# Altium integrated library con-harting-h.IntLib: 18 symbols
Pins are listed as number, name and electrical type; pins without a type are passive.

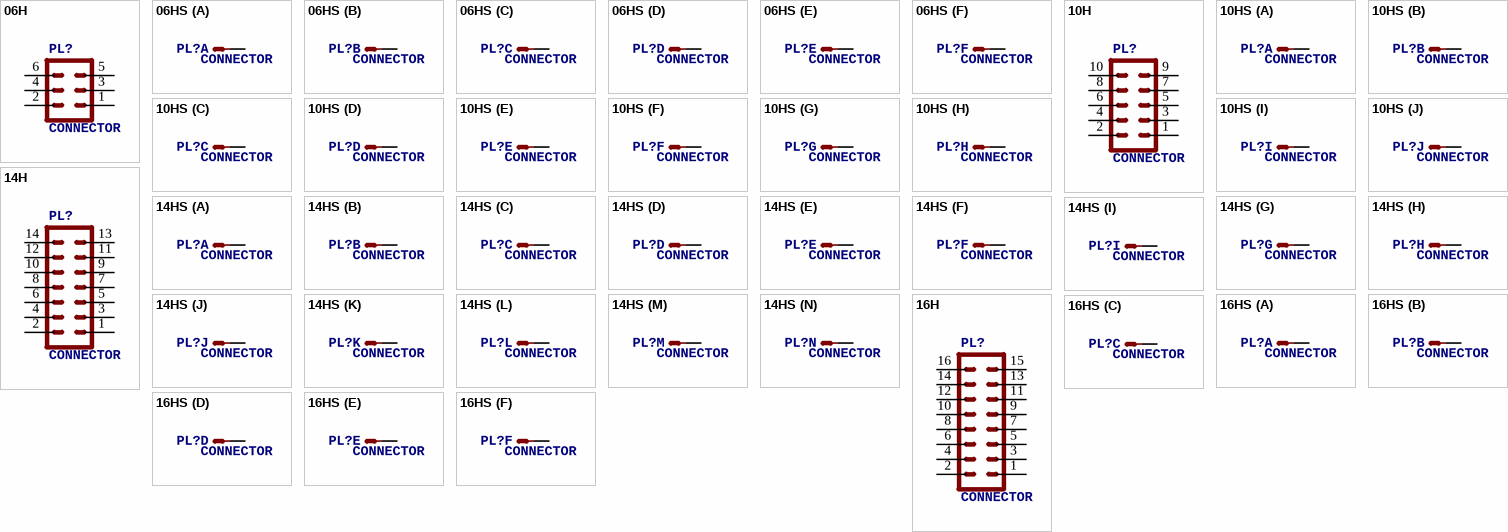
[diagram p0: symbols 06H to 16HS]

## 06H
designator PL?, comment CONNECTOR
OC_FARNELL: unknown; OC_NEWARK: unknown
footprint 06H
pins: 1, 2, 3, 4, 5, 6

## 06HS
designator PL?, comment CONNECTOR
OC_FARNELL: unknown; OC_NEWARK: unknown
footprint 06H
part A pins: 1 S
part B pins: 2 S
part C pins: 3 S
part D pins: 4 S
part E pins: 5 S
part F pins: 6 S

## 10H
designator PL?, comment CONNECTOR
OC_FARNELL: unknown; OC_NEWARK: unknown
footprint 10H
pins: 1, 2, 3, 4, 5, 6, 7, 8, 9, 10

## 10HS
designator PL?, comment CONNECTOR
OC_FARNELL: unknown; OC_NEWARK: unknown
footprint 10H
part A pins: 1 S
part B pins: 2 S
part C pins: 3 S
part D pins: 4 S
part E pins: 5 S
part F pins: 6 S
part G pins: 7 S
part H pins: 8 S
part I pins: 9 S
part J pins: 10 S

## 14H
designator PL?, comment CONNECTOR
OC_FARNELL: unknown; OC_NEWARK: unknown
footprint 14H
pins: 1, 2, 3, 4, 5, 6, 7, 8, 9, 10, 11, 12, 13, 14

## 14HS
designator PL?, comment CONNECTOR
OC_FARNELL: unknown; OC_NEWARK: unknown
footprint 14H
part A pins: 1 S
part B pins: 2 S
part C pins: 3 S
part D pins: 4 S
part E pins: 5 S
part F pins: 6 S
part G pins: 7 S
part H pins: 8 S
part I pins: 9 S
part J pins: 10 S
part K pins: 11 S
part L pins: 12 S
part M pins: 13 S
part N pins: 14 S

## 16H
designator PL?, comment CONNECTOR
OC_FARNELL: unknown; OC_NEWARK: unknown
footprint 16H
pins: 1, 2, 3, 4, 5, 6, 7, 8, 9, 10, 11, 12, 13, 14, 15, 16

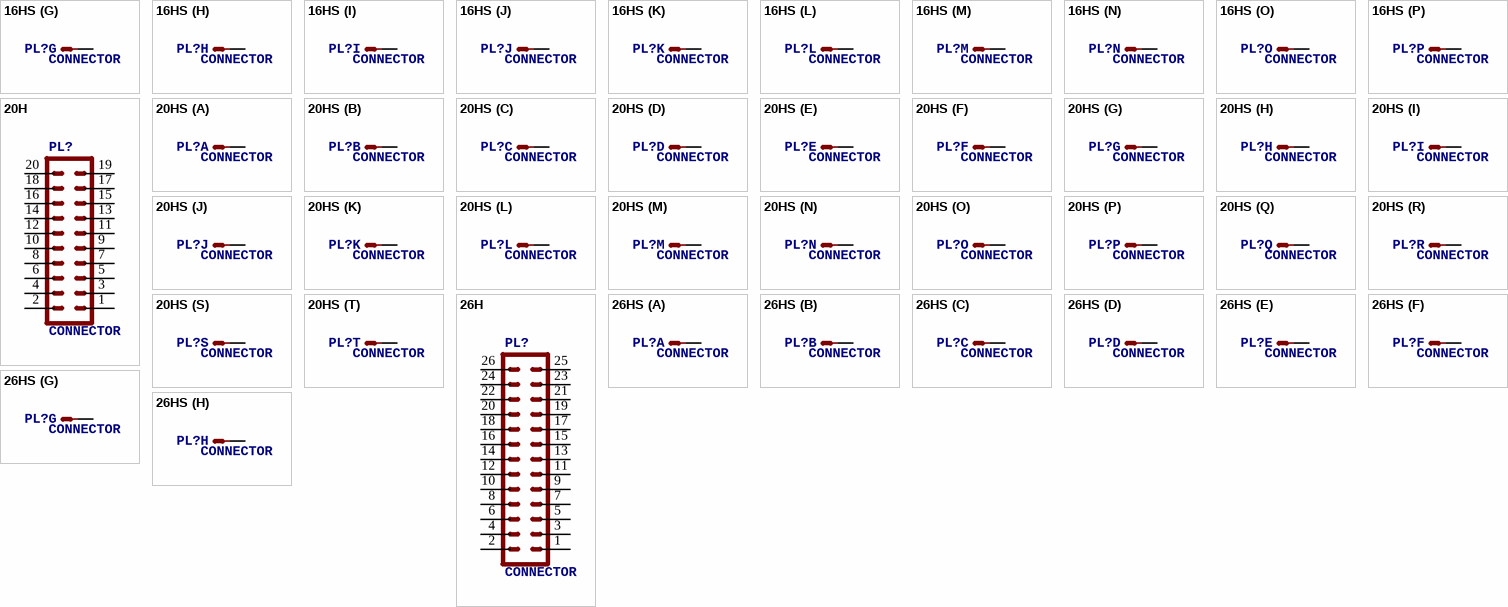
[diagram p1: symbols 16HS to 26HS]

## 16HS
designator PL?, comment CONNECTOR
OC_FARNELL: unknown; OC_NEWARK: unknown
footprint 16H
part A pins: 1 S
part B pins: 2 S
part C pins: 3 S
part D pins: 4 S
part E pins: 5 S
part F pins: 6 S
part G pins: 7 S
part H pins: 8 S
part I pins: 9 S
part J pins: 10 S
part K pins: 11 S
part L pins: 12 S
part M pins: 13 S
part N pins: 14 S
part O pins: 15 S
part P pins: 16 S

## 20H
designator PL?, comment CONNECTOR
OC_FARNELL: unknown; OC_NEWARK: unknown
footprint 20H
pins: 1, 2, 3, 4, 5, 6, 7, 8, 9, 10, 11, 12, 13, 14, 15, 16, 17, 18, 19, 20

## 20HS
designator PL?, comment CONNECTOR
OC_FARNELL: unknown; OC_NEWARK: unknown
footprint 20H
part A pins: 1 S
part B pins: 2 S
part C pins: 3 S
part D pins: 4 S
part E pins: 5 S
part F pins: 6 S
part G pins: 7 S
part H pins: 8 S
part I pins: 9 S
part J pins: 10 S
part K pins: 11 S
part L pins: 12 S
part M pins: 13 S
part N pins: 14 S
part O pins: 15 S
part P pins: 16 S
part Q pins: 17 S
part R pins: 18 S
part S pins: 19 S
part T pins: 20 S

## 26H
designator PL?, comment CONNECTOR
OC_FARNELL: unknown; OC_NEWARK: unknown
footprint 26H
pins: 1, 2, 3, 4, 5, 6, 7, 8, 9, 10, 11, 12, 13, 14, 15, 16, 17, 18, 19, 20, 21, 22, 23, 24, 25, 26

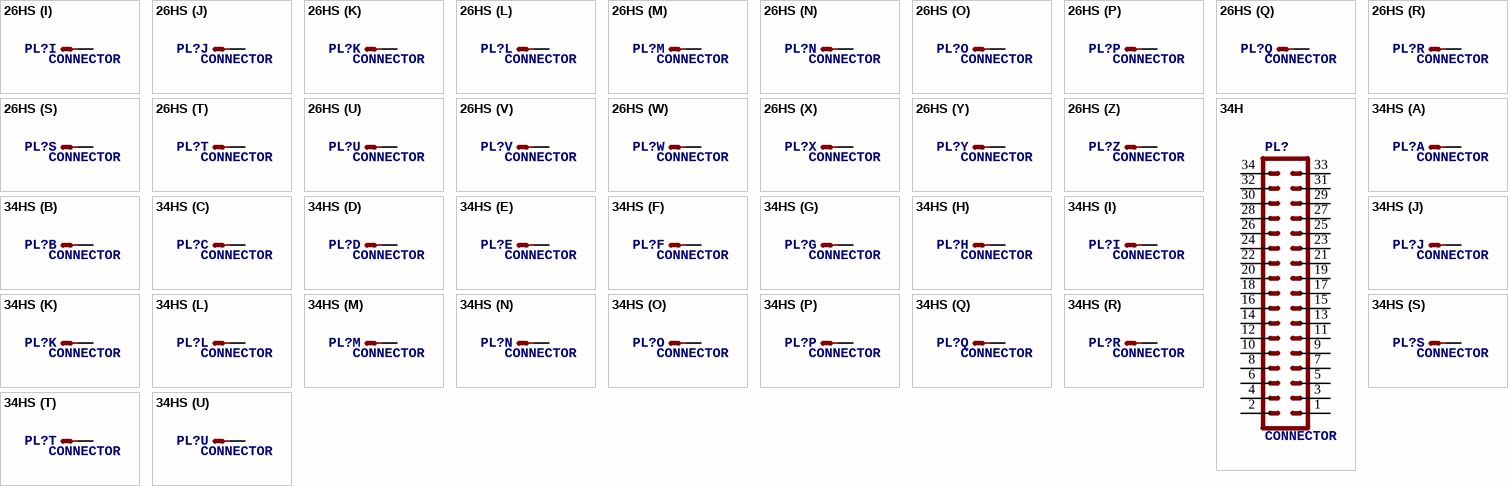
[diagram p2: symbols 26HS to 34HS]

## 26HS
designator PL?, comment CONNECTOR
OC_FARNELL: unknown; OC_NEWARK: unknown
footprint 26H
part A pins: 1 S
part B pins: 2 S
part C pins: 3 S
part D pins: 4 S
part E pins: 5 S
part F pins: 6 S
part G pins: 7 S
part H pins: 8 S
part I pins: 9 S
part J pins: 10 S
part K pins: 11 S
part L pins: 12 S
part M pins: 13 S
part N pins: 14 S
part O pins: 15 S
part P pins: 16 S
part Q pins: 17 S
part R pins: 18 S
part S pins: 19 S
part T pins: 20 S
part U pins: 21 S
part V pins: 22 S
part W pins: 23 S
part X pins: 24 S
part Y pins: 25 S
part Z pins: 26 S

## 34H
designator PL?, comment CONNECTOR
OC_FARNELL: unknown; OC_NEWARK: unknown
footprint 34H
pins: 1, 2, 3, 4, 5, 6, 7, 8, 9, 10, 11, 12, 13, 14, 15, 16, 17, 18, 19, 20, 21, 22, 23, 24, 25, 26, 27, 28, 29, 30, 31, 32, 33, 34

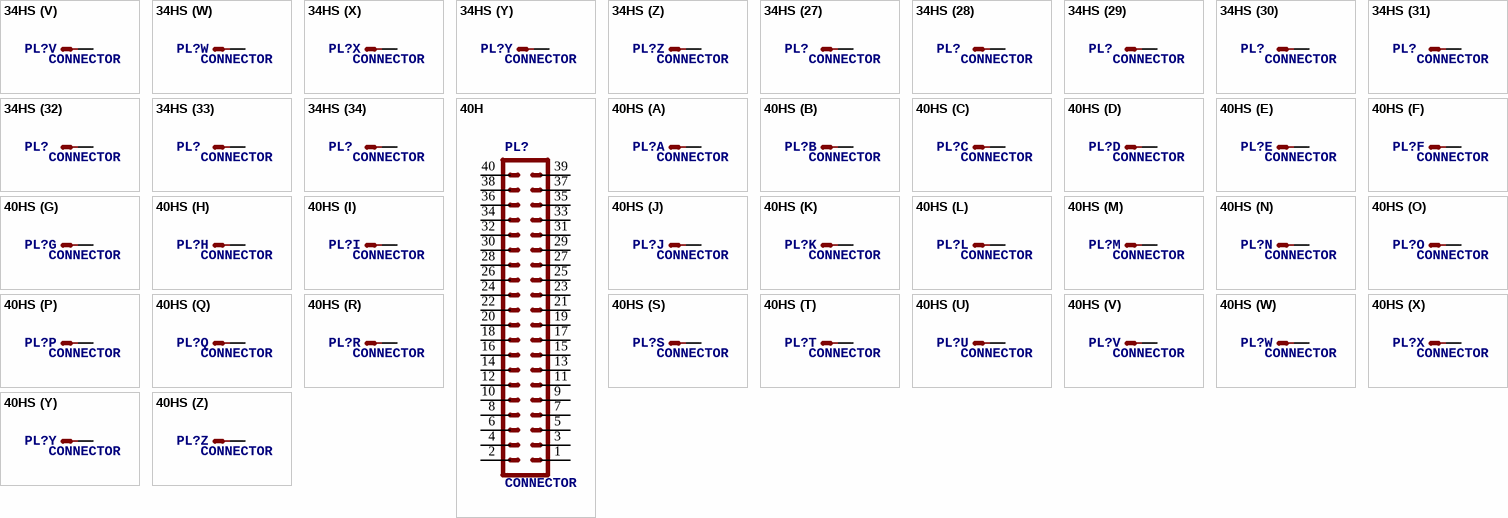
[diagram p3: symbols 34HS to 40HS]

## 34HS
designator PL?, comment CONNECTOR
OC_FARNELL: unknown; OC_NEWARK: unknown
footprint 34H
part A pins: 1 S
part B pins: 2 S
part C pins: 3 S
part D pins: 4 S
part E pins: 5 S
part F pins: 6 S
part G pins: 7 S
part H pins: 8 S
part I pins: 9 S
part J pins: 10 S
part K pins: 11 S
part L pins: 12 S
part M pins: 13 S
part N pins: 14 S
part O pins: 15 S
part P pins: 16 S
part Q pins: 17 S
part R pins: 18 S
part S pins: 19 S
part T pins: 20 S
part U pins: 21 S
part V pins: 22 S
part W pins: 23 S
part X pins: 24 S
part Y pins: 25 S
part Z pins: 26 S
part 27 pins: 27 S
part 28 pins: 28 S
part 29 pins: 29 S
part 30 pins: 30 S
part 31 pins: 31 S
part 32 pins: 32 S
part 33 pins: 33 S
part 34 pins: 34 S

## 40H
designator PL?, comment CONNECTOR
OC_FARNELL: unknown; OC_NEWARK: unknown
footprint 40H
pins: 1, 2, 3, 4, 5, 6, 7, 8, 9, 10, 11, 12, 13, 14, 15, 16, 17, 18, 19, 20, 21, 22, 23, 24, 25, 26, 27, 28, 29, 30, 31, 32, 33, 34, 35, 36, 37, 38, 39, 40

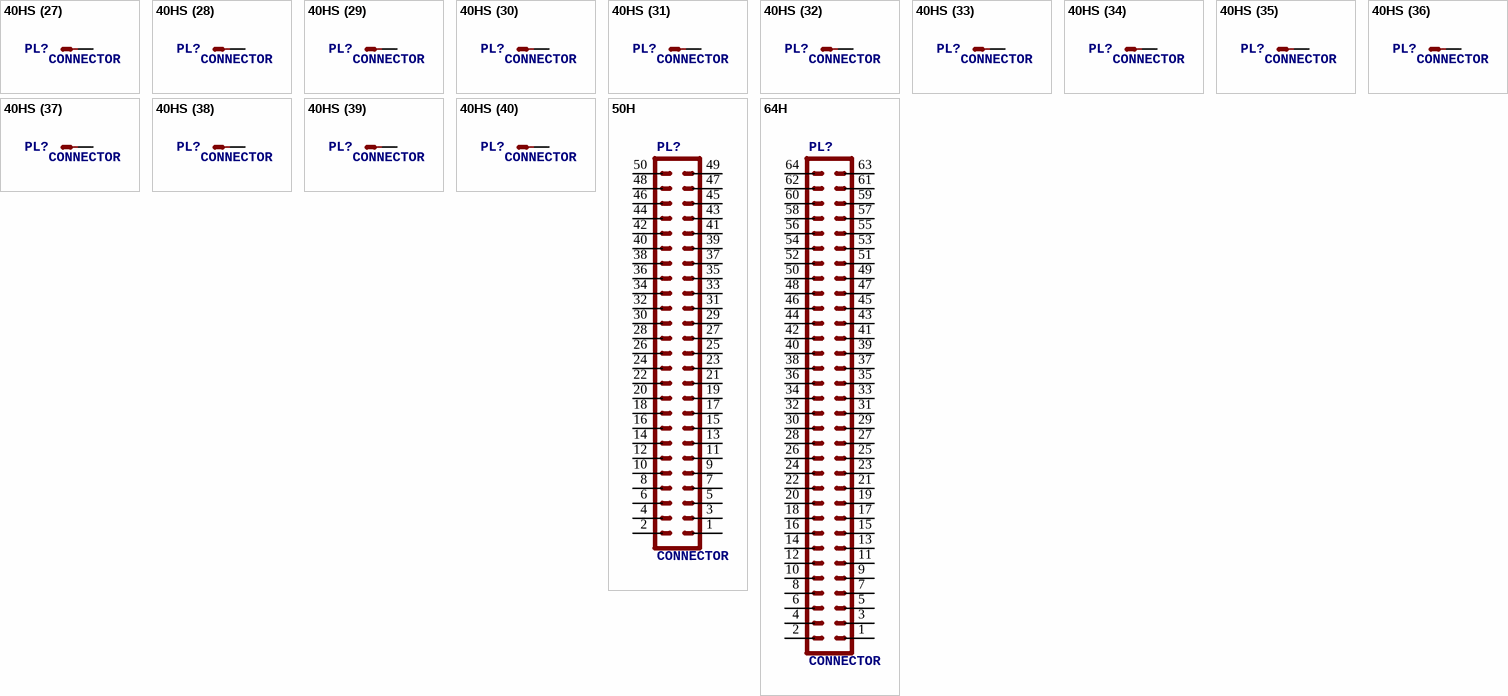
[diagram p4: symbols 40HS to 64H]

## 40HS
designator PL?, comment CONNECTOR
OC_FARNELL: unknown; OC_NEWARK: unknown
footprint 40H
part A pins: 1 S
part B pins: 2 S
part C pins: 3 S
part D pins: 4 S
part E pins: 5 S
part F pins: 6 S
part G pins: 7 S
part H pins: 8 S
part I pins: 9 S
part J pins: 10 S
part K pins: 11 S
part L pins: 12 S
part M pins: 13 S
part N pins: 14 S
part O pins: 15 S
part P pins: 16 S
part Q pins: 17 S
part R pins: 18 S
part S pins: 19 S
part T pins: 20 S
part U pins: 21 S
part V pins: 22 S
part W pins: 23 S
part X pins: 24 S
part Y pins: 25 S
part Z pins: 26 S
part 27 pins: 27 S
part 28 pins: 28 S
part 29 pins: 29 S
part 30 pins: 30 S
part 31 pins: 31 S
part 32 pins: 32 S
part 33 pins: 33 S
part 34 pins: 34 S
part 35 pins: 35 S
part 36 pins: 36 S
part 37 pins: 37 S
part 38 pins: 38 S
part 39 pins: 39 S
part 40 pins: 40 S

## 50H
designator PL?, comment CONNECTOR
OC_FARNELL: unknown; OC_NEWARK: unknown
footprint 50H
pins: 1, 2, 3, 4, 5, 6, 7, 8, 9, 10, 11, 12, 13, 14, 15, 16, 17, 18, 19, 20, 21, 22, 23, 24, 25, 26, 27, 28, 29, 30, 31, 32, 33, 34, 35, 36, 37, 38, 39, 40, 41, 42, 43, 44, 45, 46, 47, 48, 49, 50

## 64H
designator PL?, comment CONNECTOR
OC_FARNELL: unknown; OC_NEWARK: unknown
footprint 64H
pins: 1, 2, 3, 4, 5, 6, 7, 8, 9, 10, 11, 12, 13, 14, 15, 16, 17, 18, 19, 20, 21, 22, 23, 24, 25, 26, 27, 28, 29, 30, 31, 32, 33, 34, 35, 36, 37, 38, 39, 40, 41, 42, 43, 44, 45, 46, 47, 48, 49, 50, 51, 52, 53, 54, 55, 56, 57, 58, 59, 60, 61, 62, 63, 64